# Altium footprint library PcbLib1.PcbLib: 1 footprints
Each footprint in its own frame and in the unit in brackets; x right, y up, seen from the top. Pads: shape width x height; smd on the part's side, far side on the other; paste and mask are expansions set on the pad; w line width, h text height; cw(c..) or ccw(c..) is an arc to the next point about the centre after c.
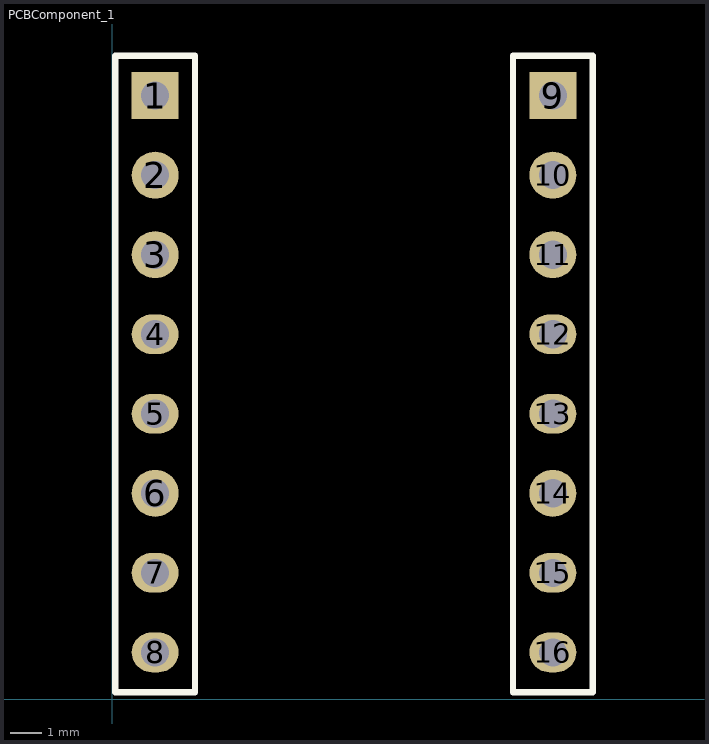
[diagram p0: the footprint, top view; thin cyan lines are the x and y axes]

## PCBComponent_1 [mm]
pads (16):
  rect 1.5x1.5 hole 0.9: 1(1.372,19.279) 9(14.072,19.279)
  round 1.5 hole 0.9: 2(1.372,16.739) 3(1.372,14.199) 6(1.372,6.579) 10(14.072,16.739) 11(14.072,14.199) 14(14.072,6.579)
  oval 1.5x1.27 hole 0.9: 4(1.372,11.659) 5(1.372,9.119) 7(1.372,4.039) 8(1.372,1.499) 12(14.072,11.659) 13(14.072,9.119) 15(14.072,4.039) 16(14.072,1.499)
Top Overlay:
  lines w0.2: 0.102,0.229 0.102,20.549 2.642,20.549 2.642,0.229 0.102,0.229 ; 12.802,0.229 15.342,0.229 15.342,20.549 12.802,20.549 12.802,0.229
3D body "8 pin strip.STEP": height 0.7, standoff -10.9, extent 0.102,0.229 2.642,20.549
3D body "8 pin strip.STEP": height 0.7, standoff -10.9, extent 12.675,0.229 15.215,20.549